# EAGLE library part WS2801 (library ERIC)
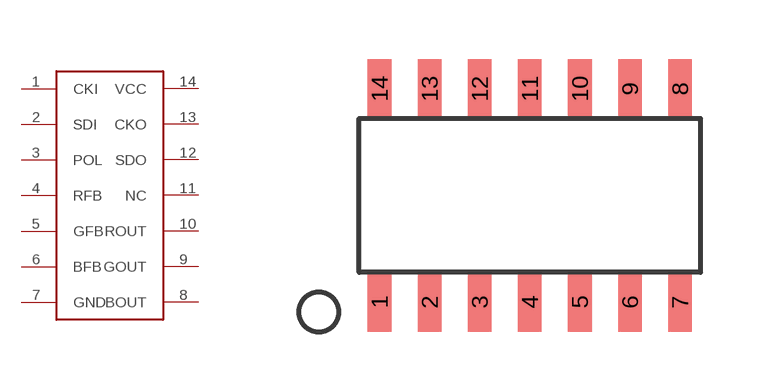
[diagram p25: symbol with the pads of SOIC14; footprint SOIC14]

Designator prefix U

## WS2801SOP  [SOIC14]
1  CKI
2  SDI
3  POL
4  RFB
5  GFB
6  BFB
7  GND
8  BOUT
9  GOUT
10  ROUT
11  NC  nc
12  SDO
13  CKO
14  VCC

## Footprint SOIC14 (pad centres in mm)
14 Lead Small Plastic Outline (OD) - Narrow 3.9 mm Body [SOIC] page 155
smd 0.6 x 1.5: 1 -3.81,-2.7; 2 -2.54,-2.7; 3 -1.27,-2.7; 4 0,-2.7; 5 1.27,-2.7; 6 2.54,-2.7; 7 3.81,-2.7; 8 3.81,2.7; 9 2.54,2.7; 10 1.27,2.7; 11 0,2.7; 12 -1.27,2.7; 13 -2.54,2.7; 14 -3.81,2.7